# EAGLE library part PIC16F1455-I/SL (library FSAE Electric (Alexander Ray's conflicted copy 2016-04-02))
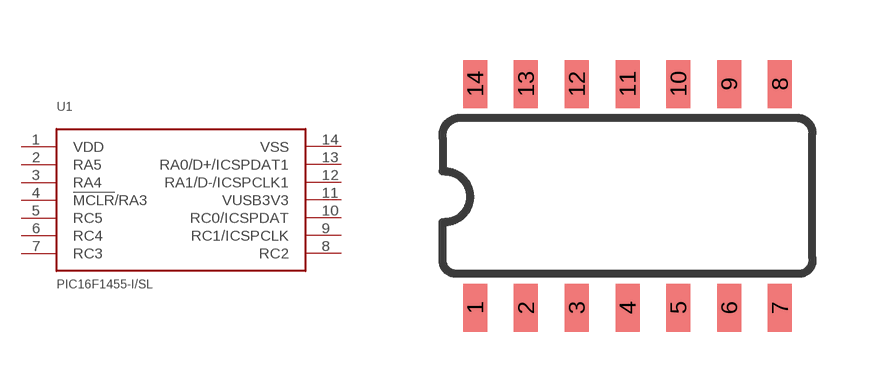
[diagram p24: symbol with the pads of SO-14; footprint SO-14]

Designator prefix U1

## PIC16F1455-I/SL (PARTNO: PIC16F1455-I/SL)  [SO-14]
1  VDD
2  RA5
3  RA4
4  !MCLR!/RA3
5  RC5
6  RC4
7  RC3
8  RC2
9  RC1/ICSPCLK
10  RC0/ICSPDAT
11  VUSB3V3
12  RA1/D-/ICSPCLK1
13  RA0/D+/ICSPDAT1
14  VSS

## Footprint SO-14 (pad centres in mm)
smd 0.6 x 1.2: 1 -3.81,-2.8; 2 -2.54,-2.8; 3 -1.27,-2.8; 4 0,-2.8; 5 1.27,-2.8; 6 2.54,-2.8; 7 3.81,-2.8; 8 3.81,2.8; 9 2.54,2.8; 10 1.27,2.8; 11 0,2.8; 12 -1.27,2.8; 13 -2.54,2.8; 14 -3.81,2.8